# Altium footprint library Face_InBack1V0.PcbLib: 12 footprints
Each footprint in its own frame and in the unit in brackets; x right, y up, seen from the top. Pads: shape width x height; smd on the part's side, far side on the other; paste and mask are expansions set on the pad; w line width, h text height; cw(c..) or ccw(c..) is an arc to the next point about the centre after c.
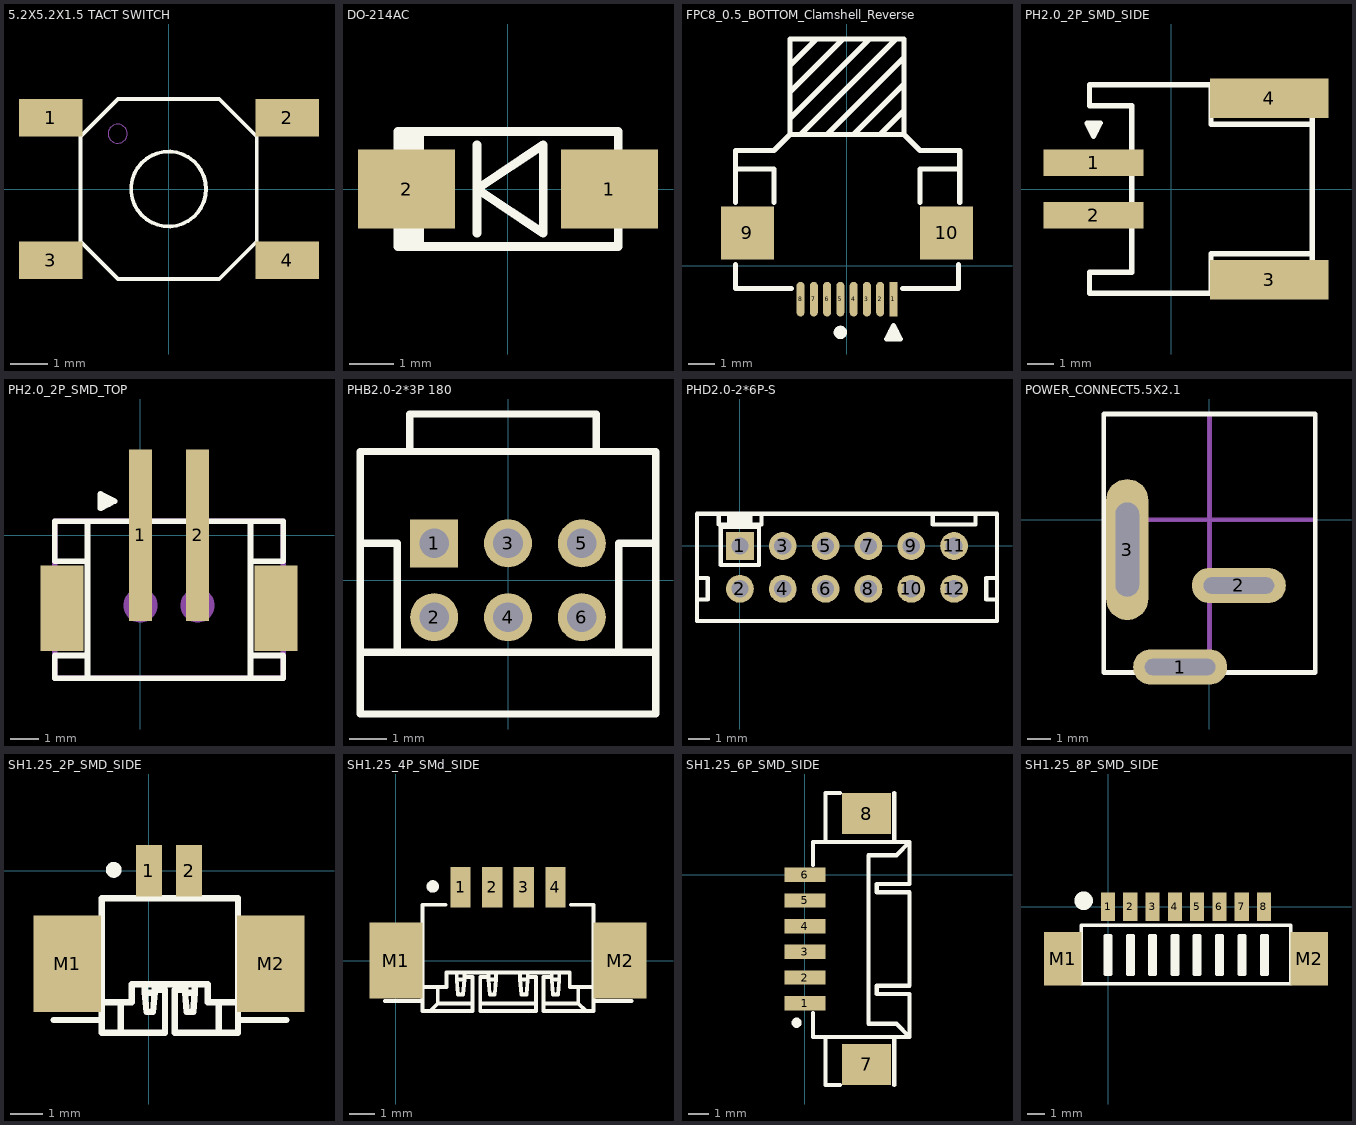
[diagram p0: the footprints below, top view; thin cyan lines are the x and y axes]

## 5.2X5.2X1.5 TACT SWITCH [mm]
pads (4):
  rect 1.7x1 smd: 1(-3.15,1.9) 2(3.15,1.9) 3(-3.15,-1.9) 4(3.15,-1.9)
Top Overlay:
  circle w0.1: c-0.011,0 r1
  lines w0.1: -2.361,-1.4 -1.361,-2.4 1.339,-2.4 2.339,-1.4 2.339,1.4 1.339,2.4 -1.361,2.4 -2.361,1.4 -2.361,-1.4
Mechanical 10:
  circle w0.013: c-1.368,1.475 r0.254
3D body "c-8-1437565-0-j-3d.stp": height 1.5, standoff 0, extent -3.301,-2.503 3.299,2.497

## DO-214AC [mm]
pads (2):
  rect 2.2x1.8 smd: 1(2.3,0) 2(-2.3,0)
Top Overlay:
  lines w0.2: -2.4,-1.2 -2.4,-0.9 ; -2.4,0.9 -2.4,1.3 ; -2.3,-0.9 -2,-0.9 -2,-1.3 ; -2.3,0.9 -2,0.9 -2,1.3 ; -2.2,-1.3 -2.2,-0.9 -2.5,-0.9 -2.5,-1.3 2.5,-1.3 2.5,-0.9 ; -2.2,1.3 -2.2,0.9 -2.5,0.9 -2.5,1.3 2.5,1.3 2.5,0.9 ; -0.7,-1 -0.7,1 ; -0.7,0 0.8,-1 0.8,1 -0.7,0
3D body "User Library-DO-214AC(SMA).STEP": height 2.24, standoff -0.04, extent -2.673,-1.387 2.813,1.407

## FPC8_0.5_BOTTOM_Clamshell_Reverse [mm]
pads (10):
  rect 0.3x1.3 smd mask+0.03: 1(1.75,-1.25)
  oval 0.3x1.3 smd mask+0.03: 2(1.25,-1.25) 3(0.75,-1.25) 4(0.25,-1.25) 5(-0.25,-1.25) 6(-0.75,-1.25) 7(-1.25,-1.25) 8(-1.75,-1.25)
  rect 2x2 smd: 9(-3.75,1.25) 10(3.75,1.25)
Top Overlay:
  circle w0.25: c-0.25,-2.5 r0.125
  lines w0.2: -4.2,0.05 -4.2,-0.85 -2.1,-0.85 ; -4.2,2.4 -4.2,3.65 ; -2.75,2.4 -2.75,3.65 -4.2,3.65 ; -2.15,5.55 0.85,8.55 ; -2.15,6.55 -0.15,8.55 ; -2.15,7.55 -1.15,8.55 ; -1.75,4.95 1.85,8.55 ; -0.75,4.95 2.15,7.85 ; 0.25,4.95 2.15,6.85 ; 1.25,4.95 2.15,5.85 ; 1.65,-2.75 1.65,-2.45 ; 1.75,-2.75 1.75,-2.25 ; 1.85,-2.75 1.85,-2.45 ; 2.1,-0.85 4.2,-0.85 4.2,0.05 ; 2.75,2.4 2.75,3.65 4.25,3.65 ; 4.25,2.4 4.25,3.65 ; -4.2,3.65 -4.2,4.35 -2.75,4.35 -2.15,4.95 ; -2.15,4.95 -2.15,8.55 2.15,8.55 2.15,4.95 ; -2.15,4.95 2.15,4.95 ; 1.75,-2.25 1.5,-2.75 2,-2.75 1.75,-2.25 ; 2.15,4.95 2.75,4.35 4.25,4.35 4.25,3.65
3D body "FPC0.5_8P.STEP": height 1.94, standoff -0.01, extent -4.2,-1.35 4.2,4.95

## PH2.0_2P_SMD_SIDE [mm] "WAFER 2.0mm SIDE ENTRY SMT"
height 5.6
pads (4):
  rect 3.8x1 smd: 1(-2.95,1) 2(-2.95,-1)
  rect 4.5x1.5 smd: 3(3.7,-3.429) 4(3.7,3.429)
Top Overlay:
  lines w0.2: -3.05,2.2 -3.05,2.5 ; -2.95,2.5 -2.95,2 ; -2.85,2.2 -2.85,2.5 ; 1.5,-3.95 1.5,-2.45 5.334,-2.45 ; 1.5,3.95 1.5,2.45 5.334,2.45 ; 4.699,3.45 4.699,3.95 -3.1,3.95 -3.1,3.15 -1.5,3.15 -1.5,-3.15 -3.1,-3.15 -3.1,-3.95 4.699,-3.95 4.699,-3.45 ; 5.334,-3.05 1.6,-3.05 1.6,-3.45 4.699,-3.45 ; 5.334,3.05 1.6,3.05 1.6,3.45 5.334,3.45 5.334,-3.45 4.699,-3.45 ; -2.95,2 -3.2,2.5 -2.7,2.5 -2.95,2
3D body "S2B-PH-SM4-TB.STEP": height 5.5, standoff -0.1, extent -4.1,-3.95 4.5,3.95

## PH2.0_2P_SMD_TOP [mm] "WAFER 2.0mm TOP ENTRY SMT"
height 6.1
pads (6):
  rect 0.8x6 smd mask+0.05: 1(0,0) 2(2,0)
  rect 1.5x3 smd mask+0.05: ""(-2.75,-2.55) ""(4.75,-2.55)
  round 1.2 on Mech4: ""(0,-2.45) ""(2,-2.45)
Top Overlay:
  lines w0.2: -1.85,-5 -1.85,-4.2 ; -1.85,0.5 -1.85,-0.9 ; -1.4,1.1 -1.1,1.1 ; -1.4,1.2 -0.9,1.2 ; -1.4,1.3 -1.1,1.3 ; 3.85,-5 3.85,-4.2 ; 3.85,0.5 3.85,-0.9 ; -1.85,-4.2 -1.85,-0.9 ; -1.85,-4.2 -3,-4.2 -3,-5 5,-5 5,-4.2 3.85,-4.2 ; -1.85,-0.9 -3,-0.9 -3,0.5 5,0.5 5,-0.9 3.85,-0.9 ; -0.9,1.2 -1.4,0.95 -1.4,1.45 -0.9,1.2 ; 3.85,-4.2 3.85,-0.9
Mechanical 4:
  lines w0.2: -3,-5 -3,0.5 5,0.5 5,-5 -3,-5
3D body "User Library-DS1066-04-2MSV6.STEP": height 6.5, standoff 0, extent -3.05,-4.95 4.95,2.45

## PHB2.0-2*3P 180 [mm]
pads (6):
  rect 1.3x1.3 hole 0.8: 1(-2,1)
  round 1.3 hole 0.8: 2(-2,-1) 3(0,1) 4(0,-1) 5(2,1) 6(2,-1)
Top Overlay:
  lines w0.2: -4,-1.95 4,-1.95 ; -4,1 -3,1 -3,-1.95 ; -2.66,3.489 -2.66,4.505 2.394,4.505 2.394,3.489 ; 3,-1.95 3,1 4,1 ; -4,-3.623 4,-3.623 4,3.489 -4,3.489 -4,1.711 -4,-1.845 -4,-3.623
3D body "User Library-PHB2_0MM_DIP180-2x3.STEP": height 7.6, standoff -2, extent -4,-3.658 4,4.442

## PHD2.0-2*6P-S [mm]
pads (12):
  rect 1.3x1.3 hole 0.8 mask+0.05: 1(0,0)
  round 1.3 hole 0.8 mask+0.05: 2(0,-2) 3(2,0) 4(2,-2) 5(4,0) 6(4,-2) 7(6,0) 8(6,-2) 9(8,0) 10(8,-2) 11(10,0) 12(10,-2)
Top Overlay:
  region: -0.6,1.533 -0.6,0.898 0.6,0.898 0.6,1.533
  lines w0.2: -2,-1.5 -1.5,-1.5 -1.5,-2.5 -1.9,-2.5 ; -0.989,1.5 -0.989,1 1.011,1 1.011,1.5 ; 9,1.5 9,1 11,1 11,1.5 ; 12,-2.5 11.5,-2.5 11.5,-1.5 12,-1.5 ; -2,-3.5 -2,1.5 12,1.5 12,-3.5 -2,-3.5 ; -0.889,-0.889 0.889,-0.889 0.889,0.889 -0.889,0.889 -0.889,-0.889
Bottom Overlay:
  lines w0.2: -0.889,-0.889 0.889,-0.889 0.889,0.889 -0.889,0.889 -0.889,-0.889
3D body "PH2.0_26.STEP": height 6.5, standoff -1.5, extent -2,-3.55 12,1.45

## POWER_CONNECT5.5X2.1 [mm]
pads (3):
  oval 4x1.5 / inner round 0 / far side oval 4x1 hole 0.7 slot 3 at 0 deg: 1(-1.25,-6.27) 2(1.25,-2.8)
  oval 1.8x6 / inner round 0 / far side oval 1x4 hole 1 slot 4 at 90 deg: 3(-3.5,-1.27)
Top Overlay:
  lines w0.2: -4.5,-6.5 4.5,-6.5 4.5,4.5 -4.5,4.5 -4.5,-6.5
Mechanical 4:
  lines w0.2: -4.5,0 4.5,0 ; 0,-6.5 0,4.5
3D body "Jack.STEP": height 13.4, standoff 0, extent -4.5,-6.5 4.5,4.5

## SH1.25_2P_SMD_SIDE [mm] "WTB 1.25MM WAFER 90 DEGREE SMT"
pads (4):
  rect 0.8x1.6 smd: 1(0,0) 2(1.25,0)
  rect 2.1x3 smd: M1(-2.55,-2.9) M2(3.8,-2.9)
Top Overlay:
  circle w0.254: c-1.097,0.029 r0.119
  lines w0.2: -2.975,-4.65 -1.475,-4.65 ; -1.475,-4.1 -0.535,-4.1 -0.535,-3.53 1.835,-3.53 1.835,-4.1 2.775,-4.1 ; -0.875,-5.05 -0.875,-4.1 ; -0.125,-3.53 -0.125,-3.8 ; 0.175,-3.71 0.5,-3.71 0.5,-5.05 -1.475,-5.05 -1.475,-0.85 2.775,-0.85 2.775,-5.05 0.8,-5.05 0.8,-3.71 1.125,-3.71 ; 0.175,-3.53 0.175,-3.8 ; 1.125,-3.53 1.125,-3.8 ; 1.425,-3.53 1.425,-3.8 ; 2.175,-5.05 2.175,-4.1 ; 2.775,-4.65 4.275,-4.65 ; -0.125,-3.8 0.175,-3.8 ; -0.125,-3.8 -0.075,-4.4 0.125,-4.4 0.175,-3.8 ; 1.125,-3.8 1.425,-3.8 ; 1.125,-3.8 1.175,-4.4 1.375,-4.4 1.425,-3.8
3D body "10114830-XXX02LFc.stp": height 3.4, standoff -0.08, extent -3.175,-4.95 4.475,0.35

## SH1.25_4P_SMd_SIDE [mm] "WTB 1.25MM WAFER 90 DEGREE SMT"
pads (6):
  rect 0.8x1.6 smd: 1(2.55,2.9) 2(3.8,2.9) 3(5.05,2.9) 4(6.3,2.9)
  rect 2.1x3 smd: M1(0,0) M2(8.85,0)
Top Overlay:
  circle w0.254: c1.453,2.929 r0.119
  lines w0.15: -0.447,-1.592 1.053,-1.592 ; 1.053,-1.042 1.993,-1.042 1.993,-0.472 6.863,-0.472 6.863,-1.042 7.803,-1.042 ; 1.353,-1.992 1.653,-1.692 ; 1.653,-1.042 1.653,-1.692 ; 1.953,2.208 1.053,2.208 1.053,-1.992 3.028,-1.992 3.028,-0.652 2.703,-0.652 ; 2.403,-0.472 2.403,-0.742 ; 2.703,-0.472 2.703,-0.742 ; 3.028,-1.692 1.653,-1.692 ; 3.328,-1.692 5.528,-1.692 ; 3.653,-0.652 3.328,-0.652 3.328,-1.992 5.528,-1.992 5.528,-0.652 5.203,-0.652 ; 3.653,-0.472 3.653,-0.742 ; 3.953,-0.472 3.953,-0.742 ; 4.903,-0.472 4.903,-0.742 ; 5.203,-0.472 5.203,-0.742 ; 5.828,-1.692 7.203,-1.692 ; 6.153,-0.652 5.828,-0.652 5.828,-1.992 7.803,-1.992 7.803,2.208 6.903,2.208 ; 6.153,-0.472 6.153,-0.742 ; 6.453,-0.472 6.453,-0.742 ; 7.203,-1.042 7.203,-1.692 ; 7.503,-1.992 7.203,-1.692 ; 7.803,-1.592 9.303,-1.592 ; 2.403,-0.742 2.453,-1.342 2.653,-1.342 2.703,-0.742 ; 2.403,-0.742 2.703,-0.742 ; 3.653,-0.742 3.703,-1.342 3.903,-1.342 3.953,-0.742 ; 3.653,-0.742 3.953,-0.742 ; 4.903,-0.742 5.203,-0.742 ; 4.903,-0.742 4.953,-1.342 5.153,-1.342 5.203,-0.742 ; 6.153,-0.742 6.203,-1.342 6.403,-1.342 6.453,-0.742 ; 6.153,-0.742 6.453,-0.742
3D body "1.25MM WAFER SMT RIGHT ANGLE, 4 POSITIONS, TIN PLATING.STEP": height 3.45, standoff -0.03, extent -0.635,-1.972 9.515,3.328

## SH1.25_6P_SMD_SIDE [mm] "WAFER 1.25mm SIDE ENTRY SMT"
pads (8):
  rect 2x0.7 smd mask+0.05: 1(0,-6.25) 2(0,-5) 3(0,-3.75) 4(0,-2.5) 5(0,-1.25) 6(0,0)
  rect 2.4x2 smd mask+0.05: 7(3,-9.225) 8(3,2.975)
Top Overlay:
  circle w0.254: c-0.4,-7.2 r0.119
  lines w0.2: 0.4,-6.725 0.4,-7.9 5.1,-7.9 ; 0.4,0.475 0.4,1.6 5.1,1.6 ; 1,-7.9 1,-10.225 1.7,-10.225 ; 1,1.6 1,3.975 1.7,3.975 ; 4.35,-10.225 4.35,-7.9 ; 4.35,1.6 4.35,3.975 ; 5.1,-7.9 5.1,-5.8 3.5,-5.8 3.5,-5.4 5.1,-5.4 5.1,-0.85 3.5,-0.85 3.5,-0.45 5.1,-0.45 5.1,1.2 5.1,1.6 ; 5.1,-7.9 4.45,-7.25 3.1,-7.25 3.1,0.95 4.45,0.95 5.1,1.6
3D body "10114830-XXX06LFc.stp": height 3.45, standoff -0.02, extent -0.406,-9.5 4.894,3.15

## SH1.25_8P_SMD_SIDE [mm] "WAFER 1.25mm TOP ENTRY SMT"
height 4.7
pads (10):
  rect 0.8x1.6 smd: 1(0,0) 2(1.25,0) 3(2.5,0) 4(3.75,0) 5(5,0) 6(6.25,0) 7(7.5,0) 8(8.75,0)
  rect 2.1x3 smd: M1(-2.55,-2.9) M2(11.3,-2.9)
Top Overlay:
  drawing of 294 lines, arcs and shapes, not listed
3D body "10114830-xxx08lfc.stp": height 3.5, standoff 0.02, extent -3.257,-5.021 11.893,0.279